# Altium schematic symbol library XTAL 8Z SERIES.Schlib: 1 symbol
Pins are listed as number, name and electrical type; pins without a type are passive.

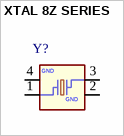
[diagram p0: symbol XTAL 8Z SERIES]

## XTAL 8Z SERIES
designator Y?
pins: 1, 2 GND (power), 3, 4 GND (power)